# Altium footprint library MC-306_32_7680K-A0_ROHS.PcbLib: 1 footprints
Each footprint in its own frame and in the unit in brackets; x right, y up, seen from the top. Pads: shape width x height; smd on the part's side, far side on the other; paste and mask are expansions set on the pad; w line width, h text height; cw(c..) or ccw(c..) is an arc to the next point about the centre after c.
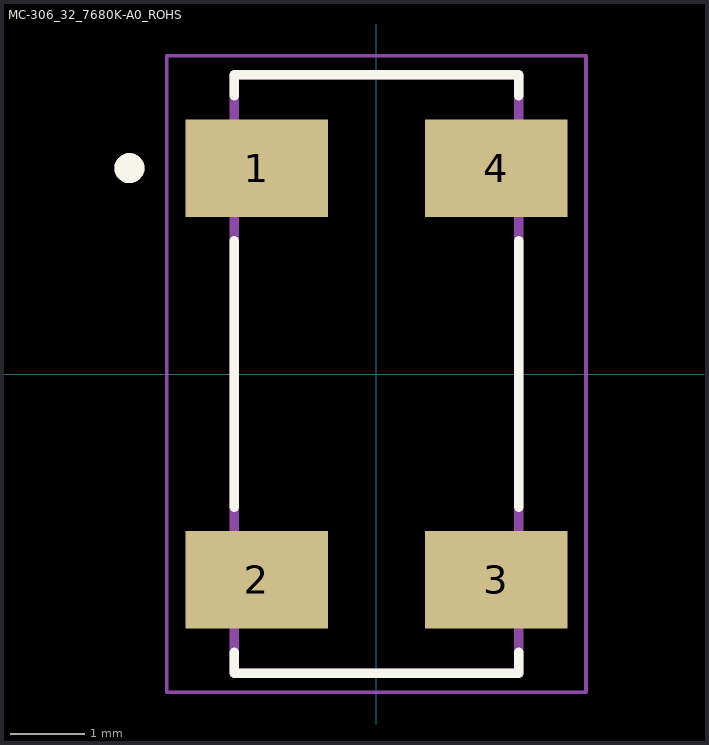
[diagram p0: the footprint, top view; thin cyan lines are the x and y axes]

## MC-306_32_7680K-A0_ROHS [mm]
pads (4):
  rect 1.9x1.3 smd: 1(-1.6,2.75) 2(-1.6,-2.75) 3(1.6,-2.75) 4(1.6,2.75)
Top Overlay:
  circle w0.2: c-3.3,2.75 r0.1
  lines w0.127: -1.9,-3.72 -1.9,-4 1.9,-4 1.9,-3.72 ; -1.9,-1.78 -1.9,1.78 ; -1.9,3.72 -1.9,4 1.9,4 1.9,3.72 ; 1.9,-1.78 1.9,1.78
Bottom Assembly:
  circle w0.2: c-3.3,2.75 r0.1
  circle w0.2: c-3.3,2.75 r0.1
  lines w0.127: -1.9,-4 1.9,-4 ; -1.9,-4 -1.9,4 ; -1.9,-4 1.9,-4 ; -1.9,-4 -1.9,4 ; -1.9,4 1.9,4 ; -1.9,4 1.9,4 ; 1.9,-4 1.9,4 ; 1.9,-4 1.9,4
Top Component Center:
  lines w0.05: -2.8,-4.25 2.8,-4.25 2.8,4.25 -2.8,4.25 -2.8,-4.25
3D body "MC-306 32.7680K-A0_ROHS.STEP": height 2.54, standoff 0, extent -1.85,-4 1.85,4